# Altium schematic symbol library BJT.SchLib: 4 symbols
Pins are listed as number, name and electrical type; pins without a type are passive.

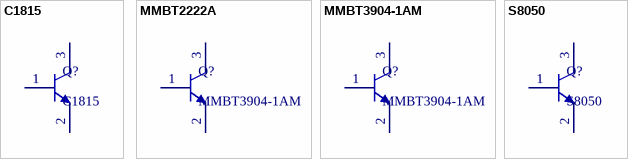
[diagram p0: symbols C1815 to S8050]

## C1815
designator Q?
footprint QTO-92 (TO-92)
footprint SOT23_NEX
pins: 1 B, 2 E, 3 C

## MMBT2222A
designator Q?, comment MMBT3904-1AM
footprint SOT23_NEX
pins: 1 B, 2 E, 3 C

## MMBT3904-1AM
designator Q?
footprint SOT23_NEX
pins: 1 B, 2 E, 3 C

## S8050
designator Q?
footprint SOT23_NEX
pins: 1 B, 2 E, 3 C